# Altium integrated library Allegro Interface Stepper Motor Controller Driver.IntLib: 4 symbols
Pins are listed as number, name and electrical type; pins without a type are passive.

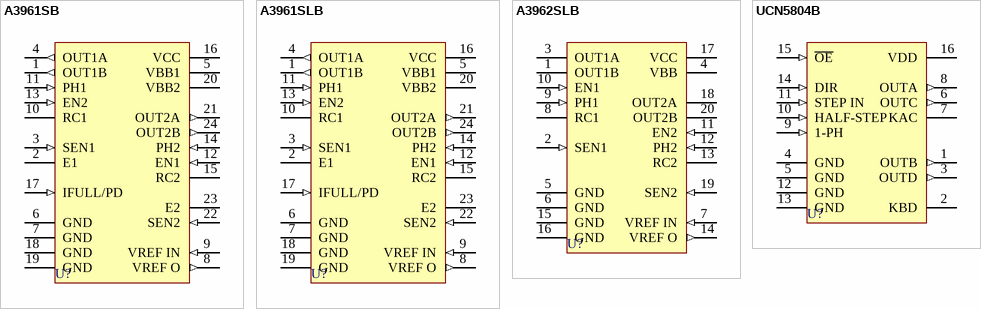
[diagram p0: symbols A3961SB to UCN5804B]

## A3961SB
designator U?
Dual Full-Bridge PWM Motor Driver; ComponentAvailability: Obsolete; Published: 13-Oct-2000; LatestRevisionDate: 06-Jun-2005; LatestRevisionNote: Stylized 3D Model Added.; DatasheetVersion: 1995; PackageVersion: 1995; PackageReference: B24; Publisher: Altium Limited; PackageDescription: DIP; 24 Leads; Row Spacing 7.62 mm; Pitch 2.54 mm; Code_JEDEC: MS-001-AF; ComponentLink1Description: Manufacturer Link; ComponentLink1URL: http://www.allegromicro.com/; ComponentLink2Description: Datasheet; ComponentLink2URL: http://www.allegromicro.com/datafile/archive/3961.pdf
footprint B24 (DIP; 24 Leads; Row Spacing 7.62 mm; Pitch 2.54 mm)
3D model B24 (DIP; 24 Leads; Row Spacing 7.62 mm; Pitch 2.54 mm)
pins: 1 OUT1B (out), 2 E1, 3 SEN1 (in), 4 OUT1A (out), 5 VBB1 (power), 6 GND (power), 7 GND (power), 8 VREF O (out), 9 VREF IN (in), 10 RC1, 11 PH1 (in), 12 EN1 (in), 13 EN2 (in), 14 PH2 (in), 15 RC2, 16 VCC (power), 17 IFULL/PD (in), 18 GND (power), 19 GND (power), 20 VBB2 (power), 21 OUT2A (out), 22 SEN2 (in), 23 E2, 24 OUT2B (out)

## A3961SLB
designator U?
Dual Full-Bridge PWM Motor Driver; ComponentAvailability: Obsolete; Published: 13-Oct-2000; LatestRevisionDate: 13-Apr-2006; LatestRevisionNote: IPC-7351 Footprint Added.; DatasheetVersion: 1995; PackageVersion: 1995; PackageReference: LB24; Publisher: Altium Limited; PackageDescription: 24-Pin Small Outline Integrated Circuit 1.27 mm Pitch; ComponentLink1Description: Manufacturer Link; ComponentLink1URL: http://www.allegromicro.com/; ComponentLink2Description: Datasheet; ComponentLink2URL: http://www.allegromicro.com/datafile/archive/3961.pdf
footprint LB24_N (SOIC, 24-Leads, Body 15.4x7.5mm, Pitch 1.27mm, IPC Medium Density)
footprint LB24_L (SOIC, 24-Leads, Body 15.4x7.5mm, Pitch 1.27mm, IPC High Density)
footprint LB24_M (SOIC, 24-Leads, Body 15.4x7.5mm, Pitch 1.27mm, IPC Low Density)
3D model LB24 (24-Pin Small Outline Integrated Circuit 1.27 mm Pitch)
pins: 1 OUT1B (out), 2 E1, 3 SEN1 (in), 4 OUT1A (out), 5 VBB1 (power), 6 GND (power), 7 GND (power), 8 VREF O (out), 9 VREF IN (in), 10 RC1, 11 PH1 (in), 12 EN1 (in), 13 EN2 (in), 14 PH2 (in), 15 RC2, 16 VCC (power), 17 IFULL/PD (in), 18 GND (power), 19 GND (power), 20 VBB2 (power), 21 OUT2A (out), 22 SEN2 (in), 23 E2, 24 OUT2B (out)

## A3962SLB
designator U?
Dual Full-Bridge PWM Motor Driver; ComponentAvailability: Obsolete; Published: 13-Oct-2000; LatestRevisionDate: 13-Apr-2006; LatestRevisionNote: IPC-7351 Footprint Added.; DatasheetVersion: 1995; PackageVersion: 1995; PackageReference: LB20; Publisher: Altium Limited; PackageDescription: 20-Pin Small Outline Integrated Circuit 1.27 mm Pitch; Code_JEDEC: MS-013-AC; Code_IPC: SOIC127P1030-20; ComponentLink1Description: Manufacturer Link; ComponentLink1URL: http://www.allegromicro.com/; ComponentLink2Description: Datasheet; ComponentLink2URL: http://www.allegromicro.com/datafile/archive/3962.pdf
footprint LB20_N (SOIC, 20-Leads, Body 12.8x7.5mm, Pitch 1.27mm, IPC Medium Density)
footprint LB20_L (SOIC, 20-Leads, Body 12.8x7.5mm, Pitch 1.27mm, IPC High Density)
footprint LB20_M (SOIC, 20-Leads, Body 12.8x7.5mm, Pitch 1.27mm, IPC Low Density)
3D model LB20 (20-Pin Small Outline Integrated Circuit 1.27 mm Pitch)
pins: 1 OUT1B (oc), 2 SEN1 (in), 3 OUT1A (oc), 4 VBB (power), 5 GND (power), 6 GND (power), 7 VREF IN (in), 8 RC1, 9 PH1 (in), 10 EN1 (in), 11 EN2 (in), 12 PH2 (in), 13 RC2, 14 VREF O (out), 15 GND (power), 16 GND (power), 17 VCC (power), 18 OUT2A (oc), 19 SEN2 (in), 20 OUT2B (oc)

## UCN5804B
designator U?
BiMOS II Unipolar Stepper-Motor Translator/Driver; Note: Pins (4,5) and (12,13) exist as TABS; all are internally connected (GND).; ComponentAvailability: Obsolete; Published: 13-Oct-2000; LatestRevisionDate: 06-Jun-2005; LatestRevisionNote: Stylized 3D Model Added.; DatasheetVersion: 1995; PackageVersion: 1994; PackageReference: B16; Publisher: Altium Limited; PackageDescription: DIP; 16 Leads; Row Spacing 7.62 mm; Pitch 2.54 mm; Code_JEDEC: MS-001-BB; ComponentLink1Description: Manufacturer Link; ComponentLink1URL: http://www.allegromicro.com/; ComponentLink2Description: Datasheet; ComponentLink2URL: http://www.allegromicro.com/datafile/archive/5804.pdf
footprint B16 (DIP; 16 Leads; Row Spacing 7.62 mm; Pitch 2.54 mm)
3D model B16 (DIP; 16 Leads; Row Spacing 7.62 mm; Pitch 2.54 mm)
pins: 1 OUTB (out), 2 KBD, 3 OUTD (out), 4 GND (power), 5 GND (power), 6 OUTC (out), 7 KAC, 8 OUTA (out), 9 1-PH (in), 10 HALF-STEP (in), 11 STEP IN (in), 12 GND (power), 13 GND (power), 14 DIR (in), 15 ~{OE} (in), 16 VDD (power)